# Altium footprint library TRES_MF52-A_CTM.PcbLib: 1 footprints
Each footprint in its own frame and in the unit in brackets; x right, y up, seen from the top. Pads: shape width x height; smd on the part's side, far side on the other; paste and mask are expansions set on the pad; w line width, h text height; cw(c..) or ccw(c..) is an arc to the next point about the centre after c.
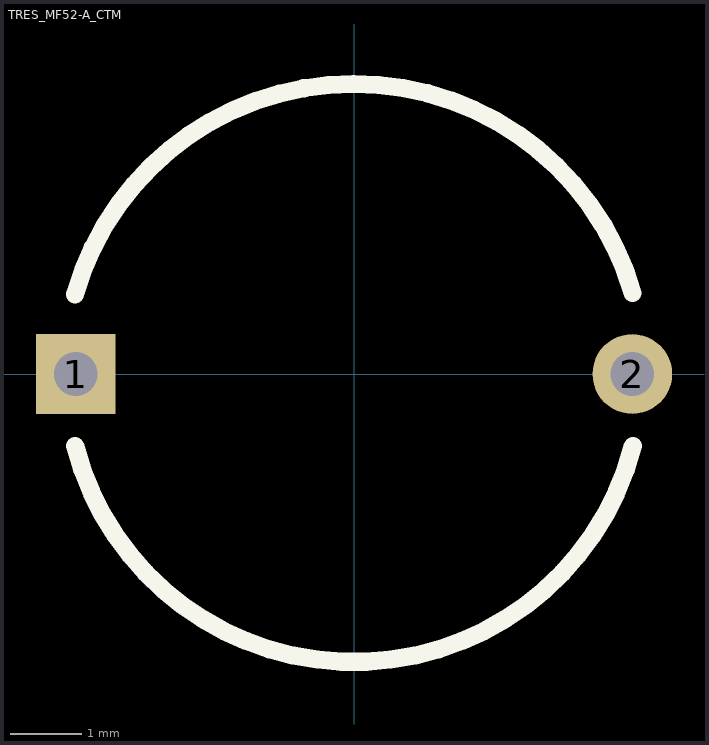
[diagram p0: the footprint, top view; thin cyan lines are the x and y axes]

## TRES_MF52-A_CTM [mil]
pads (2):
  rect 44x44 / inner round 44 / far side rect 44x44 hole 24: 1(-153.54,0)
  round 44 hole 24: 2(153.54,0)
Top Overlay:
  lines w10: -153.92,43.98 cw(c0,0) 153.73,44.63 ; -153.86,-39.71 ccw(c0,0) 153.86,-39.71